# Altium footprint library Tank.PcbLib: 288 footprints (part 2 of 18)
Each footprint in its own frame and in the unit in brackets; x right, y up, seen from the top. Pads: shape width x height; smd on the part's side, far side on the other; paste and mask are expansions set on the pad; w line width, h text height; cw(c..) or ccw(c..) is an arc to the next point about the centre after c.
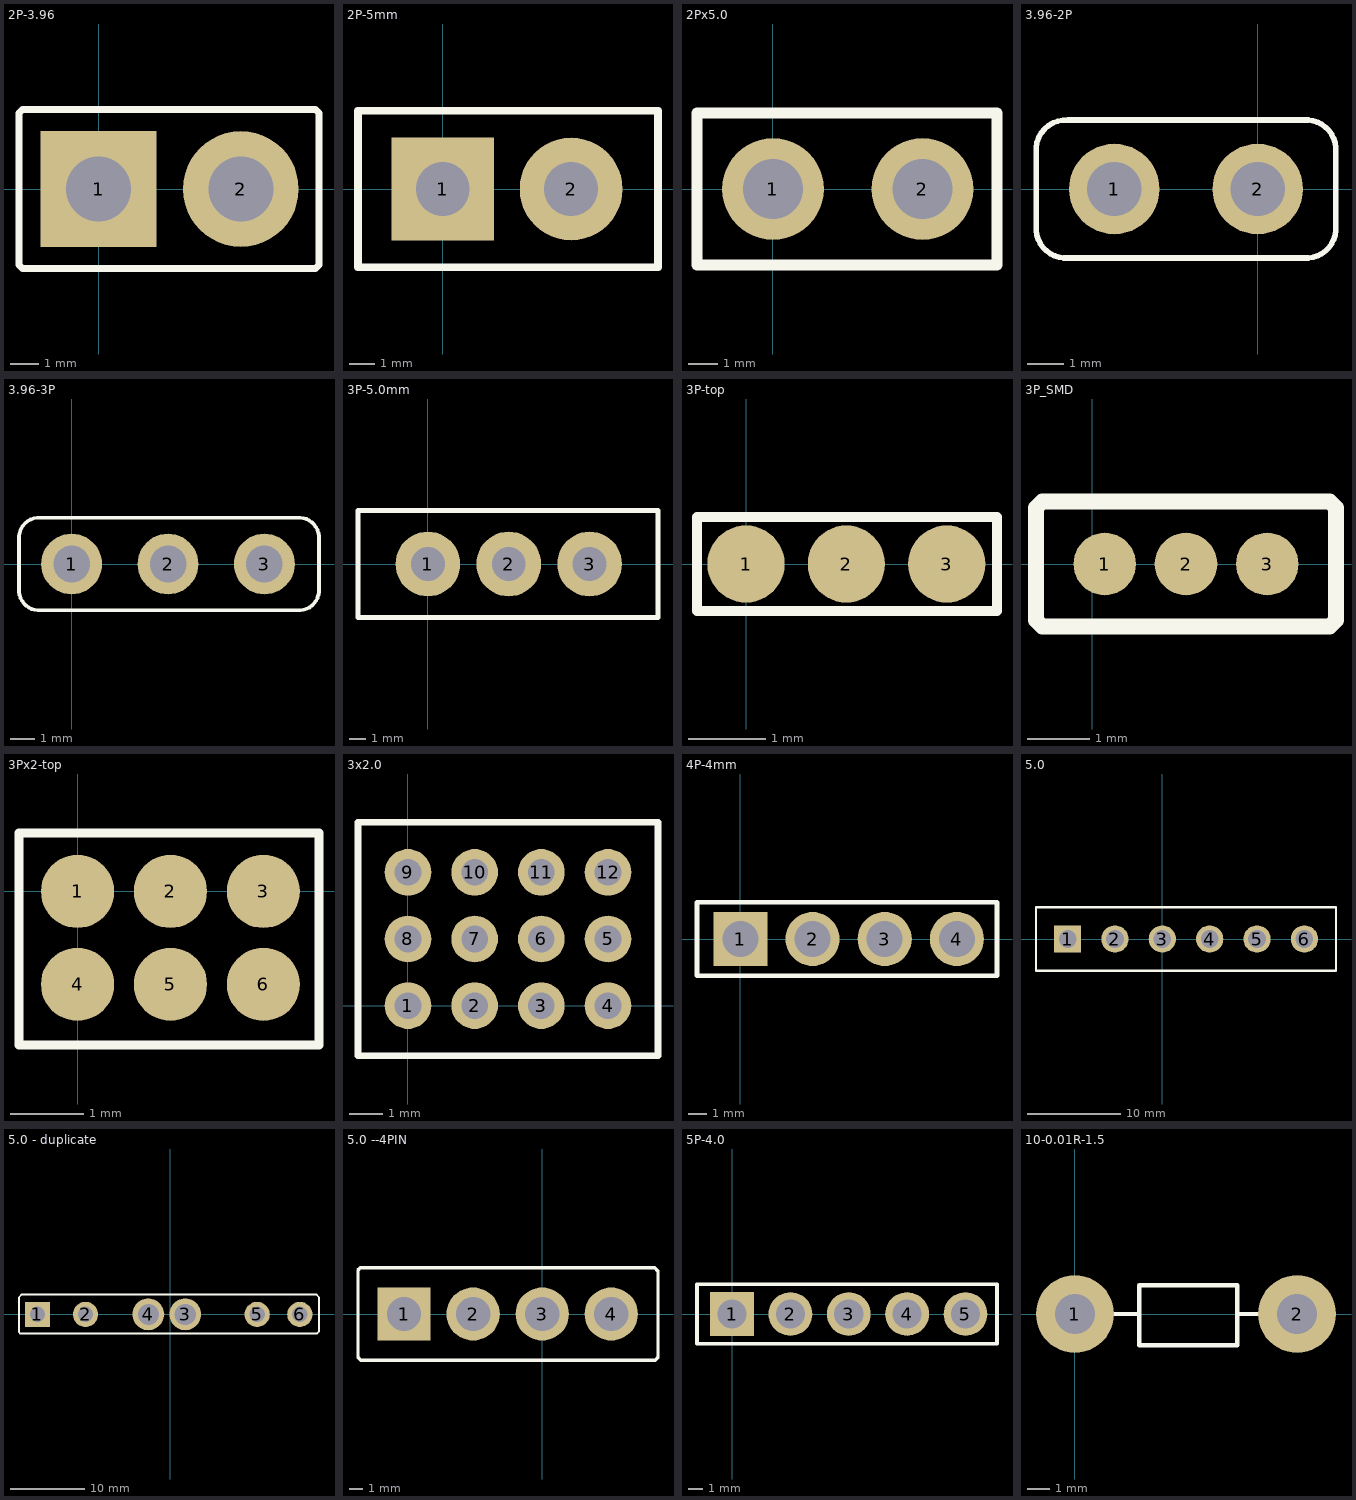
[diagram p1: the footprints below, top view; thin cyan lines are the x and y axes]

## 2P-3.96 [mil]
pads (2):
  rect 160x160 hole 90: 1(0,0)
  round 160 hole 90: 2(196.85,0)
Top Overlay:
  lines w10: 305,40 305,105 300,110 -105,110 -110,105 -110,80 -110,-105 -105,-110 300,-110 305,-105 305,42

## 2P-5mm [mm]
pads (2):
  rect 4x4 hole 2.1: 1(0,0)
  round 4 hole 2.1: 2(5,0)
Top Overlay:
  lines w0.305: -3.302,-3.048 8.382,-3.048 8.382,3.048 -3.302,3.048 -3.302,-3.048

## 2Px5.0 [mm]
pads (2):
  round 3.4 hole 2: 1(0,0) 2(5,0)
Top Overlay:
  lines w0.381: -2.54,-2.54 7.493,-2.54 7.493,2.54 -2.54,2.54 -2.54,-2.54

## 3.96-2P [mm]
pads (2):
  round 2.5 hole 1.5: 1(-3.96,0) 2(0,0)
Top Overlay:
  lines w0.152: 1.27,-1.905 ccw(c1.333,-1.079) 2.159,-1.143 2.159,1.016 ccw(c1.333,1.079) 1.397,1.905 -5.23,1.905 ccw(c-5.293,1.079) -6.119,1.143 -6.119,-1.016 ccw(c-5.293,-1.079) -5.357,-1.905 1.397,-1.905

## 3.96-3P [mm]
pads (3):
  round 2.5 hole 1.5: 1(0,0) 2(3.96,0) 3(7.92,0)
Top Overlay:
  lines w0.152: -2.159,-1.016 ccw(c-1.333,-1.079) -1.397,-1.905 9.271,-1.905 ccw(c9.335,-1.079) 10.16,-1.143 10.16,1.016 ccw(c9.335,1.079) 9.398,1.905 -1.27,1.905 ccw(c-1.333,1.079) -2.159,1.143 -2.159,-1.016

## 3P-5.0mm [mm]
pads (3):
  round 4 hole 2.1: 1(0,0) 2(5,0) 3(10,0)
Top Overlay:
  lines w0.305: 14.224,2.54 14.224,3.302 -4.318,3.302 -4.318,-3.302 14.224,-3.302 14.224,3.048

## 3P-top [mm]
pads (3):
  round 1 smd: 1(0,0) 2(1.3,0) 3(2.6,0)
Top Overlay:
  lines w0.127: -0.635,-0.61 3.251,-0.61 3.251,0.61 -0.635,0.61 -0.635,-0.61

## 3P_SMD [mm]
pads (3):
  round 1 smd: 1(0.2,0) 2(1.5,0) 3(2.8,0)
Top Overlay:
  lines w0.254: -0.9,-0.9 -0.9,0.9 -0.8,1 3.8,1 3.9,0.9 3.9,-0.9 3.8,-1 -0.8,-1 -0.9,-0.9

## 3Px2-top [mm]
pads (6):
  round 1 smd: 1(0,0) 2(1.27,0) 3(2.54,0) 4(0,-1.27) 5(1.27,-1.27) 6(2.54,-1.27)
Top Overlay:
  lines w0.127: -0.8,-2.1 -0.8,0.8 3.3,0.8 3.3,-2.1 -0.8,-2.1

## 3x2.0 [mm]
pads (12):
  round 1.4 hole 0.8: 1(0,0) 2(2,0) 3(4,0) 4(6,0) 5(6,2) 6(4,2) 7(2,2) 8(0,2) 9(0,4) 10(2,4) 11(4,4) 12(6,4)
Top Overlay:
  lines w0.203: -1.5,-1.5 -1.5,5.5 7.5,5.5 7.5,-1.5 -1.5,-1.5

## 4P-4mm [mm]
pads (4):
  rect 3x3 hole 2: 1(0,0)
  round 3 hole 2: 2(4,0) 3(8,0) 4(12,0)
Top Overlay:
  lines w0.254: -2.404,-2.032 14.224,-2.032 14.224,2.032 -2.404,2.032 -2.404,-2.032

## 5.0 [mil]
pads (6):
  rect 116x116 hole 74.8: 1(-402,0)
  round 116 hole 74.8: 2(-201,0) 3(0,0) 4(201,0) 5(402,0) 6(603,0)
Top Overlay:
  lines w10: -536,-134 -536,134 737,134 737,-134 -536,-134

## 5.0 - duplicate [mil]
pads (6):
  rect 134x134 hole 82: 1(-708.66,0)
  round 134 hole 82: 2(-452.76,0) 5(462,0) 6(688.98,0)
  round 170 hole 112: 3(78.74,0) 4(-118.11,0)
Top Overlay:
  lines w10: -807.09,-94.49 -799.21,-102.36 779.53,-102.36 791.34,-90.55 791.34,90.55 775.59,106.3 -791.34,106.3 -807.09,90.55 -807.09,-94.49

## 5.0 --4PIN [mil]
pads (4):
  rect 155x155 hole 100: 1(-402,0)
  round 155 hole 100: 2(-201,0) 3(0,0) 4(201,0)
Top Overlay:
  lines w10: -536,-126 -536,128 -530,134 328,134 337,125 337,-126 329,-134 -528,-134 -536,-126

## 5P-4.0 [mm]
pads (5):
  rect 3x3 hole 2: 1(0,0)
  round 3 hole 2: 2(4,0) 3(8,0) 4(12,0) 5(16,0)
Top Overlay:
  lines w0.254: 17.399,2.032 18.161,2.032 18.161,-2.032 17.526,-2.032 ; 17.57,-2.032 -2.404,-2.032 -2.404,2.032 17.596,2.032

## 10-0.01R-1.5 [mm]
pads (2):
  round 3.5 hole 1.8: 1(0,0) 2(10,0)
Top Overlay:
  lines w0.2: 1.8,0 2.9,0 ; 7.3,0 8.2,0 ; 2.9,-1.4 2.9,1.3 7.3,1.3 7.3,-1.4 2.9,-1.4